# EAGLE library part MCP73838 (library misc)
The MCP73837 and MCP73838 devices are fully integrated linear Li-Ion/Li-Polymer battery chargers with autonomous power source selection. Along with its small physical size, the low number of external components required makes the MCP73837/8 ideally suitable for portable applications. The MCP73837/8 automatically selects the USB port or AC adapter as the power source for the system. For the USB port powered systems, the MCP73837/8 specifically adheres to the current limits governed by the USB specification. The host microcontroller can select from two preset maximum charge current rates of 100 mA (low-power USB port) or 500 mA (high-power USB port). With an AC adapter providing power to the system, an external resistor sets the magnitude of the system or charge current up to a maximum of 1A.
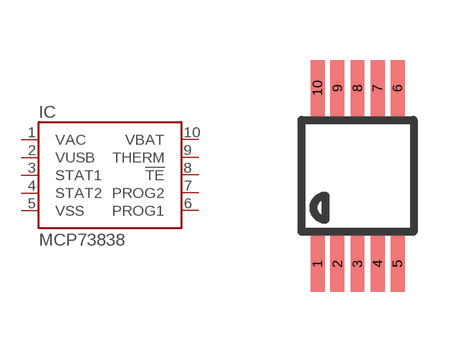
[diagram p3: symbol with the pads of MSOP10; footprint MSOP10]

Designator prefix IC

## MCP73838  [MSOP10]
1  VAC  pwr
2  VUSB  pwr
3  STAT1
4  STAT2
5  VSS  pwr
6  PROG1
7  PROG2
8  !TE!
9  THERM
10  VBAT  pwr

## Footprint MSOP10 (pad centres in mm)
10-Lead Mini Small Outline Package [MSOP] (RM-10) Source: http://www.analog.com/UploadedFiles/Data_Sheets/35641221898805SSM2167_b.pdf COMPLIANT TO JEDEC STANDARDS MO-187BA
smd 0.35 x 1.4: 1 -1,-2.2; 2 -0.5,-2.2; 3 0,-2.2; 4 0.5,-2.2; 5 1,-2.2; 6 1,2.2; 7 0.5,2.2; 8 0,2.2; 9 -0.5,2.2; 10 -1,2.2